# Altium schematic symbol library SCH - MCU - SI LABS - SI LABS EFM32TG110F32UM 24-PIN QFN 5X5.SchLib: 1 symbol
Pins are listed as number, name and electrical type; pins without a type are passive.

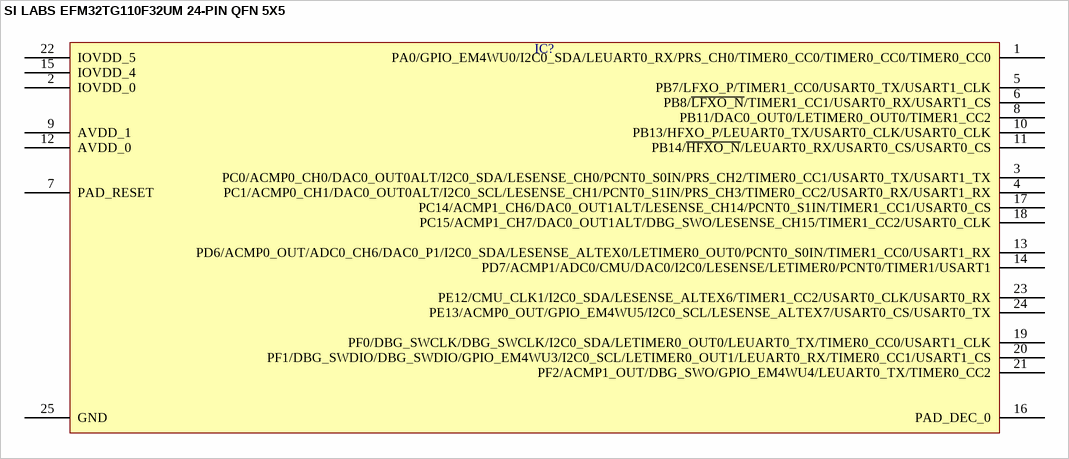
[diagram p0: symbol SI LABS EFM32TG110F32UM 24-PIN QFN 5X5]

## SI LABS EFM32TG110F32UM 24-PIN QFN 5X5
designator IC?  (value not drawn)
pins: 1 PA0/GPIO_EM4WU0/I2C0_SDA/LEUART0_RX/PRS_CH0/TIMER0_CC0/TIMER0_CC0/TIMER0_CC0, 2 IOVDD_0, 3 PC0/ACMP0_CH0/DAC0_OUT0ALT/I2C0_SDA/LESENSE_CH0/PCNT0_S0IN/PRS_CH2/TIMER0_CC1/USART0_TX/USART1_TX, 4 PC1/ACMP0_CH1/DAC0_OUT0ALT/I2C0_SCL/LESENSE_CH1/PCNT0_S1IN/PRS_CH3/TIMER0_CC2/USART0_RX/USART1_RX, 5 PB7/LFXO_P/TIMER1_CC0/USART0_TX/USART1_CLK, 6 PB8/~{LFXO_N}/TIMER1_CC1/USART0_RX/USART1_CS, 7 PAD_RESET, 8 PB11/DAC0_OUT0/LETIMER0_OUT0/TIMER1_CC2, 9 AVDD_1, 10 PB13/HFXO_P/LEUART0_TX/USART0_CLK/USART0_CLK, 11 PB14/~{HFXO_N}/LEUART0_RX/USART0_CS/USART0_CS, 12 AVDD_0, 13 PD6/ACMP0_OUT/ADC0_CH6/DAC0_P1/I2C0_SDA/LESENSE_ALTEX0/LETIMER0_OUT0/PCNT0_S0IN/TIMER1_CC0/USART1_RX, 14 PD7/ACMP1/ADC0/CMU/DAC0/I2C0/LESENSE/LETIMER0/PCNT0/TIMER1/USART1, 15 IOVDD_4, 16 PAD_DEC_0, 17 PC14/ACMP1_CH6/DAC0_OUT1ALT/LESENSE_CH14/PCNT0_S1IN/TIMER1_CC1/USART0_CS, 18 PC15/ACMP1_CH7/DAC0_OUT1ALT/DBG_SWO/LESENSE_CH15/TIMER1_CC2/USART0_CLK, 19 PF0/DBG_SWCLK/DBG_SWCLK/I2C0_SDA/LETIMER0_OUT0/LEUART0_TX/TIMER0_CC0/USART1_CLK, 20 PF1/DBG_SWDIO/DBG_SWDIO/GPIO_EM4WU3/I2C0_SCL/LETIMER0_OUT1/LEUART0_RX/TIMER0_CC1/USART1_CS, 21 PF2/ACMP1_OUT/DBG_SWO/GPIO_EM4WU4/LEUART0_TX/TIMER0_CC2, 22 IOVDD_5, 23 PE12/CMU_CLK1/I2C0_SDA/LESENSE_ALTEX6/TIMER1_CC2/USART0_CLK/USART0_RX, 24 PE13/ACMP0_OUT/GPIO_EM4WU5/I2C0_SCL/LESENSE_ALTEX7/USART0_CS/USART0_TX, 25 GND